# EAGLE library part SIM800LMODULE (library SIM800LMODULE)
SIM800L Module
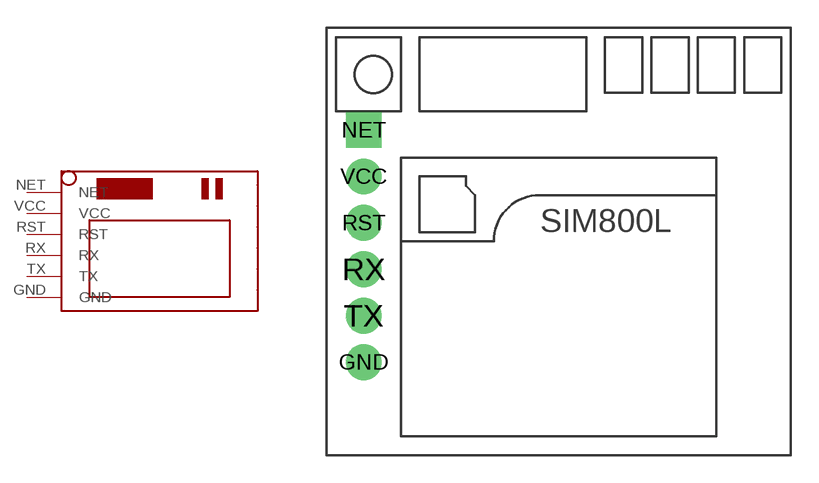
[diagram p0: symbol with the pads of SIM800LMODULE; footprint SIM800LMODULE]

Designator prefix -

## SIM800LMODULE  [SIM800LMODULE]
GND  GND
NET  NET
RST  RST
RX  RX
TX  TX
VCC  VCC

## Footprint SIM800LMODULE (pad centres in mm)
drill 0.9 pad 1.93: GND -10.5,-6.5; RST -10.5,1; RX -10.5,-1.5; TX -10.5,-4; VCC -10.5,3.5
drill 0.9 pad 1.93 square: NET -10.5,6